# EAGLE library part 59453-081110EDHLF (library 59453-081110EDHLF)
FPC Bottom connector 8 position 0.5mm R/A MPN: 59453-081110EDHLF Designed by AKstudios github.com/akstudios
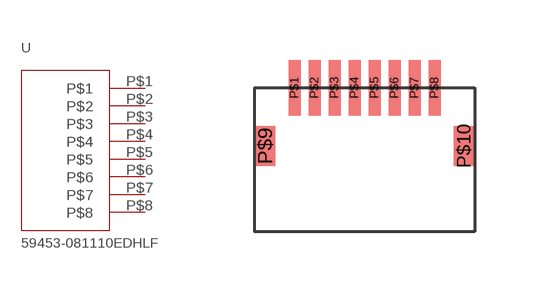
[diagram p0: symbol with the pads of 59453-081110EDHLF; footprint 59453-081110EDHLF]

Designator prefix -

## 59453-081110EDHLF  [59453-081110EDHLF]
P$1  P$1
P$2  P$2
P$3  P$3
P$4  P$4
P$5  P$5
P$6  P$6
P$7  P$7
P$8  P$8

## Footprint 59453-081110EDHLF (pad centres in mm)
smd 0.3 x 1.4: P$1 1,3.6; P$2 1.5,3.6; P$3 2,3.6; P$4 2.5,3.6; P$5 3,3.6; P$6 3.5,3.6; P$7 4,3.6; P$8 4.5,3.6
smd 0.52 x 1: P$9 0.26,2.15; P$10 5.24,2.15